# Altium footprint library terminal block header.PcbLib: 1 footprints
Each footprint in its own frame and in the unit in brackets; x right, y up, seen from the top. Pads: shape width x height; smd on the part's side, far side on the other; paste and mask are expansions set on the pad; w line width, h text height; cw(c..) or ccw(c..) is an arc to the next point about the centre after c.
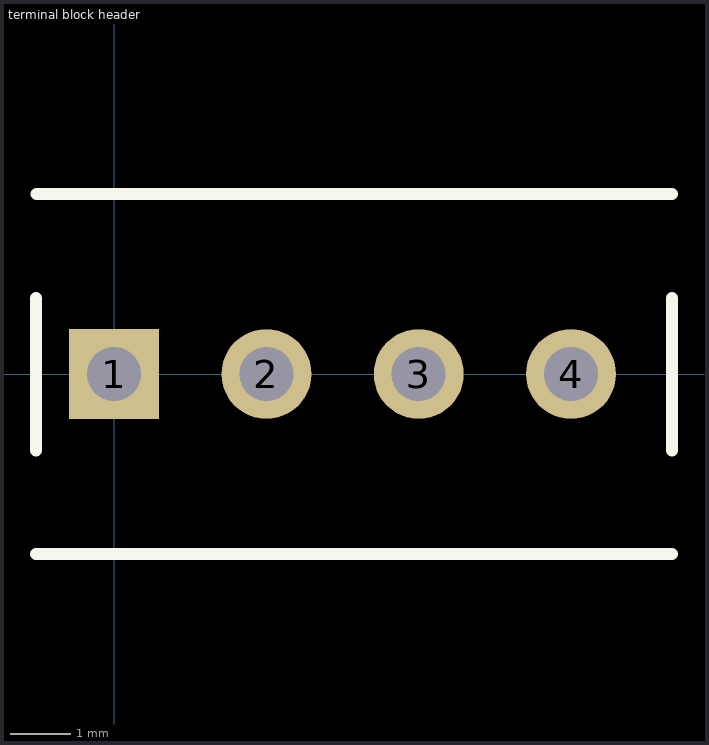
[diagram p0: the footprint, top view; thin cyan lines are the x and y axes]

## terminal block header [mm]
height 8.5
pads (4):
  rect 1.5x1.5 hole 0.9: 1(0,0)
  round 1.5 hole 0.9: 2(2.54,0) 3(5.08,0) 4(7.62,0)
Top Overlay:
  lines w0.2: -1.304,-3 9.305,-3 ; -1.304,-1.275 -1.304,1.265 ; -1.295,3 9.305,3 ; 9.305,-1.275 9.305,1.265
3D body: height 10, standoff -3.4, extent -1.525,-3.275 9.095,3.225